# Altium footprint library ICs.PcbLib: 86 footprints (part 1 of 6)
Each footprint in its own frame and in the unit in brackets; x right, y up, seen from the top. Pads: shape width x height; smd on the part's side, far side on the other; paste and mask are expansions set on the pad; w line width, h text height; cw(c..) or ccw(c..) is an arc to the next point about the centre after c.
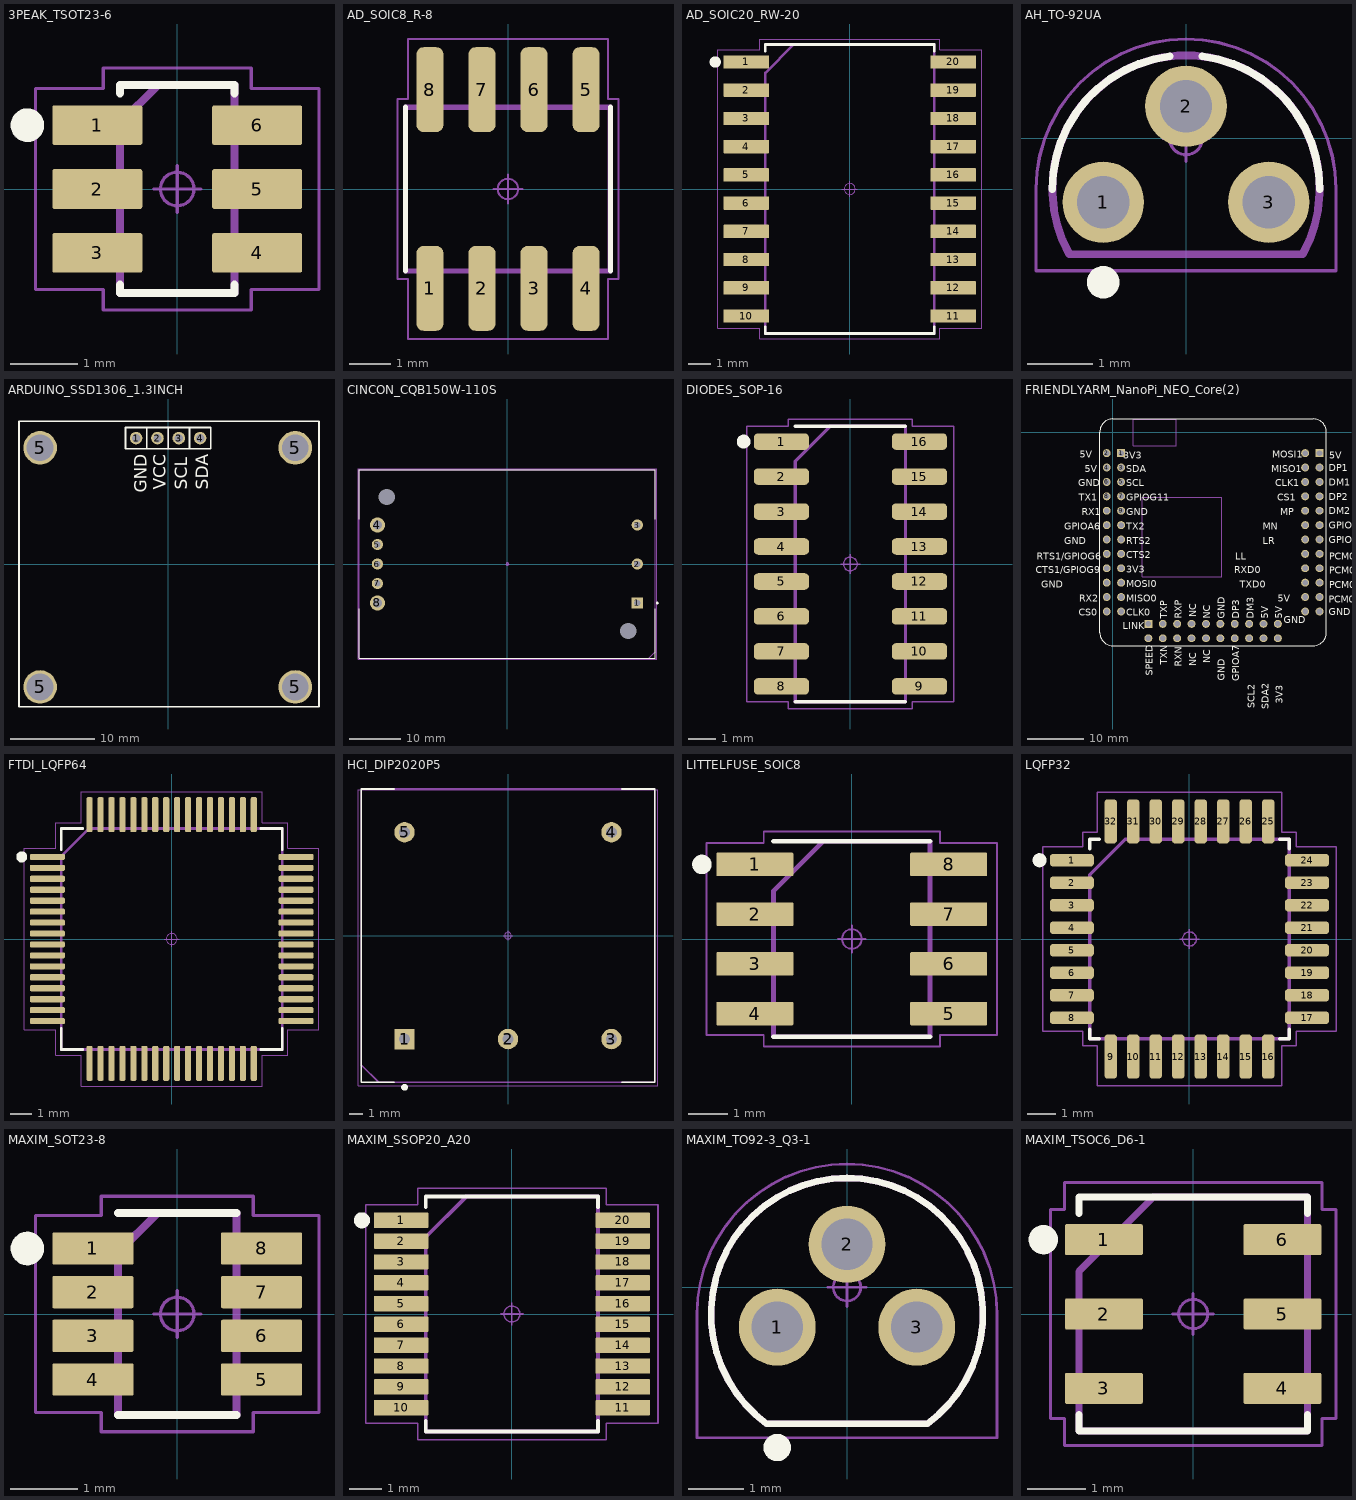
[diagram p0: the footprints below, top view; thin cyan lines are the x and y axes]

## 3PEAK_TSOT23-6 [mm] "Small Outline Transistor (SOT23), 0.95 mm pitch; 6 pin, 2.90 mm L X 1.60 mm W X 0.95 mm H body"
pads (6):
  rrect10% 1.34x0.59 smd: 1(-1.19,0.95) 2(-1.19,0) 3(-1.19,-0.95) 4(1.19,-0.95) 5(1.19,0) 6(1.19,0.95)
Top Overlay:
  circle w0.25: c-2.23,0.95 r0.125
  lines w0.12: -0.85,-1.425 -0.85,-1.55 0.85,-1.55 0.85,-1.425 ; -0.85,1.425 -0.85,1.55 0.85,1.55 0.85,1.425
Mechanical 11:
  lines w0.12: -0.85,-1.55 0.85,-1.55 0.85,1.55 -0.283,1.55 -0.85,0.983 -0.85,-1.55
  text ".Designator" at -2.252,-0.226 h1
Mechanical 15:
  circle w0.05: c0,0 r0.25
  lines w0.05: -0.35,0 0.35,0 ; 0,-0.35 0,0.35 ; -2.11,-1.495 -1.1,-1.495 -1.1,-1.8 1.1,-1.8 1.1,-1.495 2.11,-1.495 2.11,1.495 1.1,1.495 1.1,1.8 -1.1,1.8 -1.1,1.495 -2.11,1.495 -2.11,-1.495
3D body "3PEAK_TSOT23-6.STEP": height 0.95, standoff 0, extent -1.5,-1.55 1.5,1.55

## AD_SOIC8_R-8 [mm]
pads (8):
  rrect52% 0.66x2.07 smd: 1(-1.905,-2.425) 2(-0.635,-2.425) 3(0.635,-2.425) 4(1.905,-2.425) 5(1.905,2.425) 6(0.635,2.425) 7(-0.635,2.425) 8(-1.905,2.425)
Top Overlay:
  lines w0.12: -2.5,-2 -2.5,2 ; 2.5,-2 2.5,2
Mechanical 1:
  text ".Designator" at -2.577,-0.283 h1.2
Mechanical 11:
  lines w0.12: -2.5,-2 -2.5,2 2.5,2 2.5,-2 -2.5,-2
Mechanical 12:
  lines w0.025: -2.45,-1.95 -2.45,1.95 2.45,1.95 2.45,-1.95 -2.45,-1.95 ; -2.11,-3 -1.7,-3 -1.7,-2.165 -2.11,-2.165 -2.11,-3 ; -2.11,2.165 -1.7,2.165 -1.7,3 -2.11,3 -2.11,2.165 ; -0.84,-3 -0.43,-3 -0.43,-2.165 -0.84,-2.165 -0.84,-3 ; -0.84,2.165 -0.43,2.165 -0.43,3 -0.84,3 -0.84,2.165 ; 0.43,-3 0.84,-3 0.84,-2.165 0.43,-2.165 0.43,-3 ; 0.43,2.165 0.84,2.165 0.84,3 0.43,3 0.43,2.165 ; 1.7,-3 2.11,-3 2.11,-2.165 1.7,-2.165 1.7,-3 ; 1.7,2.165 2.11,2.165 2.11,3 1.7,3 1.7,2.165
Mechanical 15:
  circle w0.05: c0,0 r0.25
  lines w0.05: -0.35,0 0.35,0 ; 0,-0.35 0,0.35 ; -2.7,-2.2 -2.7,2.2 -2.435,2.2 -2.435,3.66 2.435,3.66 2.435,2.2 2.7,2.2 2.7,-2.2 2.435,-2.2 2.435,-3.66 -2.435,-3.66 -2.435,-2.2 -2.7,-2.2
3D body "SOIC8P127_490X600X175L83X41.STEP": height 1.75, standoff 0, extent -2.45,-3 2.45,3

## AD_SOIC20_RW-20 [mm] "Small Outline IC (SOIC), 1.27 mm pitch; 20 pin, 12.80 mm L X 7.50 mm W X 2.65 mm H body"
pads (20):
  rrect10% 2.05x0.6 smd: 1(-4.655,5.715) 2(-4.655,4.445) 3(-4.655,3.175) 4(-4.655,1.905) 5(-4.655,0.635) 6(-4.655,-0.635) 7(-4.655,-1.905) 8(-4.655,-3.175) 9(-4.655,-4.445) 10(-4.655,-5.715) 11(4.655,-5.715) 12(4.655,-4.445) 13(4.655,-3.175) 14(4.655,-1.905) 15(4.655,-0.635) 16(4.655,0.635) 17(4.655,1.905) 18(4.655,3.175) 19(4.655,4.445) 20(4.655,5.715)
Top Overlay:
  circle w0.25: c-6.05,5.715 r0.125
  lines w0.12: -3.8,-6.195 -3.8,-6.5 3.8,-6.5 3.8,-6.195 ; -3.8,6.195 -3.8,6.5 3.8,6.5 3.8,6.195
Mechanical 11:
  lines w0.12: -3.8,-6.5 -3.8,5.23 -2.53,6.5 3.8,6.5 3.8,-6.5 -3.8,-6.5
  text ".Designator" at -6.763,-0.679 h3
Mechanical 15:
  circle w0.05: c0,0 r0.25
  lines w0.05: -0.35,0 0.35,0 ; 0,-0.35 0,0.35 ; -5.93,-6.265 -5.93,6.265 -4.05,6.265 -4.05,6.75 4.05,6.75 4.05,6.265 5.93,6.265 5.93,-6.265 4.05,-6.265 4.05,-6.75 -4.05,-6.75 -4.05,-6.265 -5.93,-6.265
3D body "AD_SOIC20_RW-20.STEP": height 2.65, standoff 0, extent -5.325,-6.5 5.325,6.5

## AH_TO-92UA [mm] "TO-92, 1.27 mm pitch; 3 pin, 4.10 mm W X 4.25 mm H body"
pads (3):
  round 1.25 hole 0.8 paste-2539.97: 1(-1.27,-0.978) 2(0,0.495) 3(1.27,-0.978)
Top Overlay:
  circle w0.25: c-1.27,-2.205 r0.125
  lines w0.12: -2.05,-0.775 cw(c0,-0.775) -0.25,1.26 ; 0.25,1.26 cw(c0,-0.775) 2.05,-0.775
Mechanical 11:
  lines w0.12: -1.79,-1.775 cw(c0,-0.775) 1.79,-1.775 -1.79,-1.775
  text ".Designator" at -2.252,-0.226 h1
Mechanical 15:
  circle w0.05: c0,0 r0.25
  lines w0.05: -0.35,0 0.35,0 ; 0,-0.35 0,0.35 ; -2.3,-2.03 2.3,-2.03 2.3,-0.775 ccw(c0,-0.775) -2.3,-0.775 -2.3,-2.03
3D body "AH_TO-92UA.STEP": height 4.25, standoff -2, extent -2.05,-1.78 2.05,1.27

## ARDUINO_SSD1306_1.3INCH [mm] "1.3 inch OLED Display 128*64 pixels white - I2C"
pads (8):
  round 1.5 hole 1: 1(-3.81,15) 2(-1.27,15) 3(1.27,15) 4(3.81,15)
  round 4 hole 3.2: 5(-15.25,-14.65) 5(-15.25,13.85) 5(15.15,-14.65) 5(15.15,13.85)
Top Overlay:
  lines w0.2: -3.81,13.73 5.08,13.73 5.08,16.27 -5.08,16.27 -5.08,13.73 -2.54,13.73 -2.54,16.27 0,16.27 0,13.73 2.54,13.73 2.54,16.27 ; -17.77,-17 -17.77,17 17.98,17 17.98,-17 -17.77,-17
  text "GND" at -2.56,8.52 h1.5
  text "VCC" at -0.27,8.86 h1.5
  text "SCL" at 2.27,8.86 h1.5
  text "SDA" at 4.81,8.86 h1.5
3D body "Display_OLED_SSD1306_1.3inch.STEP": height 9.9, standoff -1.5, extent -17.85,-17 17.85,17
3D body: height 9.9, standoff 9.5, extent -13.5,-3.25 -8.5,5.75
3D body: height 9.9, standoff 9.5, extent -5.75,-3.25 -4.75,5.75
3D body: height 9.9, standoff 9.5, extent -1.75,-3.25 -0.75,5.75
3D body: height 9.9, standoff 9.5, extent 1.5,-3.25 6.5,0.75
3D body: height 9.9, standoff 9.5, extent 2.5,0.75 5.5,5.75
3D body: height 9.9, standoff 9.5, extent 7.7,-3.25 14.025,5.75

## CINCON_CQB150W-110S [mm] "CINCON_CQB150W-110S"
pads (10):
  round 0 hole 3.2 unplated: 0(-23.6,13.1) 0(23.6,-13.1)
  rect 2.2x2.2 hole 1.2 paste-2539.97: 1(25.4,-7.62)
  round 2.2 hole 1.2 paste-2539.97: 2(25.4,0) 3(25.4,7.62) 5(-25.4,3.81) 6(-25.4,0) 7(-25.4,-3.81)
  round 3 hole 1.8 paste-2539.97: 4(-25.4,7.62) 8(-25.4,-7.62)
Top Overlay:
  circle w0.25: c29.32,-7.62 r0.125
  lines w0.12: -28.95,-8.7 -28.95,-18.4 28.95,-18.4 28.95,-8.7 ; -28.95,8.7 -28.95,18.4 28.95,18.4 28.95,8.7
Mechanical 11:
  lines w0.12: -28.95,-18.4 -28.95,18.4 28.95,18.4 28.95,-17.13 27.68,-18.4 -28.95,-18.4
  text ".Designator" at -11.274,-1.132 h5
Mechanical 15:
  circle w0.05: c0,0 r0.25
  lines w0.05: -0.35,0 0.35,0 ; 0,-0.35 0,0.35 ; -29.2,-18.65 29.2,-18.65 29.2,18.65 -29.2,18.65 -29.2,-18.65
3D body "CQB100W-110SXX 2023.10.06.STEP": height 12.77, standoff -4.75, extent -28.95,-18.4 28.949,18.404

## DIODES_SOP-16 [mm]
pads (16):
  rrect50% 2x0.6 smd: 1(-2.505,4.445) 2(-2.505,3.175) 3(-2.505,1.905) 4(-2.505,0.635) 5(-2.505,-0.635) 6(-2.505,-1.905) 7(-2.505,-3.175) 8(-2.505,-4.445) 9(2.505,-4.445) 10(2.505,-3.175) 11(2.505,-1.905) 12(2.505,-0.635) 13(2.505,0.635) 14(2.505,1.905) 15(2.505,3.175) 16(2.505,4.445)
Top Overlay:
  circle w0.25: c-3.875,4.445 r0.125
  lines w0.12: -2,-5 2,-5 ; -2,5 2,5
Mechanical 11:
  lines w0.12: -2,-5 2,-5 2,5 -0.73,5 -2,3.73 -2,-5
  text ".Designator" at 0.5,-4.5 h2
Mechanical 15:
  circle w0.05: c0,0 r0.25
  lines w0.05: -0.35,0 0.35,0 ; 0,-0.35 0,0.35 ; -3.755,-4.995 -2.25,-4.995 -2.25,-5.25 2.25,-5.25 2.25,-4.995 3.755,-4.995 3.755,4.995 2.25,4.995 2.25,5.25 -2.25,5.25 -2.25,4.995 -3.755,4.995 -3.755,-4.995
3D body "SOIC16P127_990X605X175L83X42N.STEP": height 1.75, standoff 0, extent -3.15,-5 3.15,5

## FRIENDLYARM_NanoPi_NEO_Core(2) [mm]
pads (68):
  rect 1.4x1.4 hole 1: 1(1.47,-3.73) 25(6.284,-33.865) 45(36.5,-3.73)
  round 1.4 hole 1: 2(-1.07,-3.73) 3(1.47,-6.27) 4(-1.07,-6.27) 5(1.47,-8.81) 6(-1.07,-8.81) 7(1.47,-11.35) 8(-1.07,-11.35) 9(1.47,-13.89) 10(-1.07,-13.89) 11(1.47,-16.43) 12(-1.07,-16.43) 13(1.47,-18.97) 14(-1.07,-18.97) 15(1.47,-21.51) 16(-1.07,-21.51) 17(1.47,-24.05) 18(-1.07,-24.05) 19(1.47,-26.59) 20(-1.07,-26.59) 21(1.47,-29.13) 22(-1.07,-29.13) 23(1.47,-31.67) 24(-1.07,-31.67) 26(6.285,-36.405) 27(8.824,-33.865) 28(8.824,-36.405) 29(11.364,-33.865) 30(11.365,-36.405) 31(13.904,-33.865) 32(13.904,-36.405) 33(16.444,-33.865) 34(16.444,-36.405) 35(18.985,-33.865) 36(18.984,-36.405) 37(21.525,-33.865) 38(21.524,-36.405) 39(24.064,-33.865) 40(24.064,-36.405) 41(26.604,-33.865) 42(26.604,-36.405) 43(29.144,-33.865) 44(29.145,-36.405) 46(33.96,-3.73) 47(36.5,-6.27) 48(33.96,-6.27) 49(36.5,-8.81) 50(33.96,-8.81) 51(36.5,-11.35) 52(33.96,-11.35) 53(36.5,-13.89) 54(33.96,-13.89) 55(36.5,-16.43) 56(33.96,-16.43) 57(36.5,-18.97) 58(33.96,-18.97) 59(36.5,-21.51) 60(33.96,-21.51) 61(36.5,-24.05) 62(33.96,-24.05) 63(36.5,-26.59) 64(33.96,-26.59) 65(36.5,-29.13) 66(33.96,-29.13) 67(36.5,-31.67) 68(33.96,-31.67)
Top Overlay:
  lines w0.12: -2.3,-35.4 ccw(c0,-35.4) 0,-37.7 35.4,-37.7 ccw(c35.4,-35.4) 37.7,-35.4 37.7,0 ccw(c35.4,0) 35.4,2.3 0,2.3 ccw(c0,0) -2.3,0 -2.3,-35.4
  text "GND" at 38.141,-32.325 h1.2
  text "PCM0_DIN" at 38.154,-30.13 h1.2
  text "PCM0_DOUT" at 38.177,-27.59 h1.2
  text "PCM0_CLK" at 38.2,-25.05 h1.2
  text "PCM0_SYNC" at 38.2,-22.51 h1.2
  text "GPIOA17" at 38.141,-19.625 h1.2
  text "GPIOL11" at 38.141,-17.085 h1.2
  text "DM2" at 38.141,-14.545 h1.2
  text "DP2" at 38.141,-12.005 h1.2
  text "GND" at 30.198,-33.717 h1.2
  text "5V" at 29.102,-29.93 h1.2
  text "TXD0" at 22.43,-27.476 h1.2
  text "RXD0" at 21.477,-24.966 h1.2
  text "LL" at 21.641,-22.5 h1.2
  text "LR" at 26.452,-19.77 h1.2
  text "MN" at 26.487,-17.23 h1.2
  text "MP" at 29.577,-14.69 h1.2
  text "CS1" at 29.016,-12.15 h1.2
  text "5V" at 38.2,-4.68 h1.2
  text "MOSI1" at 28.117,-4.53 h1.2
  text "MISO1" at 28.013,-7.07 h1.2
  text "DP1" at 38.144,-6.925 h1.2
  text "CLK1" at 28.634,-9.61 h1.2
  text "DM1" at 38.111,-9.465 h1.2
  text "5V" at 29.944,-32.971 h1.2
  text "5V" at 27.404,-32.971 h1.2
  text "DM3" at 24.864,-32.971 h1.2
  text "DP3" at 22.324,-32.971 h1.2
  text "GND" at 19.784,-32.971 h1.2
  text "NC" at 17.244,-32.971 h1.2
  text "NC" at 14.704,-32.724 h1.2
  text "3V3" at 30.03,-47.935 h1.2
  text "SDA2" at 27.521,-48.889 h1.2
  text "SCL2" at 25.055,-48.724 h1.2
  text "GPIOA7" at 22.324,-43.97 h1.2
  text "GND" at 19.784,-43.878 h1.2
  text "NC" at 17.244,-40.789 h1.2
  text "NC" at 14.704,-41.349 h1.2
  text "LINK" at 1.788,-34.815 h1.2
  text "SPEED" at 7.084,-43.014 h1.2
  text "TXN" at 9.624,-41.107 h1.2
  text "TXP" at 9.624,-32.967 h1.2
  text "RXN" at 12.164,-41.428 h1.2
  text "RXP" at 12.164,-33.001 h1.2
  text "CLK0" at 2.365,-32.47 h1.2
  text "MISO0" at 2.365,-29.93 h1.2
  text "MOSI0" at 2.365,-27.39 h1.2
  text "3V3" at 2.365,-24.85 h1.2
  text "CTS2" at 2.365,-22.31 h1.2
  text "RTS2" at 2.365,-19.77 h1.2
  text "TX2" at 2.365,-17.23 h1.2
  text "GND" at 2.365,-14.69 h1.2
  text "GPIOG11" at 2.365,-12.15 h1.2
  text "CS0" at -5.995,-32.47 h1.2
  text "RX2" at -5.928,-29.93 h1.2
  text "GND" at -12.6,-27.476 h1.2
  text "CTS1/GPIOG9" at -13.553,-24.966 h1.2
  text "RTS1/GPIOG6" at -13.389,-22.5 h1.2
  text "GND" at -8.578,-19.77 h1.2
  text "GPIOA6" at -8.543,-17.23 h1.2
  text "RX1" at -5.453,-14.69 h1.2
  text "TX1" at -6.014,-12.15 h1.2
  text "3V3" at 1.861,-4.68 h1.2
  text "5V" at -5.793,-4.53 h1.2
  text "5V" at -4.943,-7.07 h1.2
  text "SDA" at 2.368,-7.07 h1.2
  text "GND" at -6.093,-9.61 h1.2
  text "SCL" at 2.334,-9.61 h1.2
Mechanical 13:
  lines w0.1: 3.59,2.276 3.59,-1.027 3.59,-2.424 10.575,-2.424 11.21,-2.424 11.21,0.879 11.21,2.276 ; 5.216,-25.526 5.216,-11.526 19.216,-11.526 19.216,-25.526 5.216,-25.526
  lines w0.12: 3.59,2.276 11.21,2.276
3D body "PLD-2x12.STEP": height 8.6, standoff -2.3, extent -2.339,-32.94 2.741,-2.46
3D body "PLD-2x10.STEP": height 8.6, standoff -2.3, extent 5.014,-37.675 30.414,-32.595
3D body "PLD-2x12.STEP": height 8.6, standoff -2.3, extent 32.691,-32.94 37.771,-2.46
3D body "kicad_module_3D_nanoPi_NEO_Core_кор..x_b": height 7.2, standoff 1.25, extent -2.3,-37.735 37.7,2.425

## FTDI_LQFP64 [mm] "Quad Flat Pack (QFP), 0.50 mm pitch; square, 16 pin X 16 pin, 10.00 mm L X 10.00 mm W X 1.60 mm H body"
pads (64):
  rrect50% 1.6x0.28 smd: 1(-5.68,3.75) 2(-5.68,3.25) 3(-5.68,2.75) 4(-5.68,2.25) 5(-5.68,1.75) 6(-5.68,1.25) 7(-5.68,0.75) 8(-5.68,0.25) 9(-5.68,-0.25) 10(-5.68,-0.75) 11(-5.68,-1.25) 12(-5.68,-1.75) 13(-5.68,-2.25) 14(-5.68,-2.75) 15(-5.68,-3.25) 16(-5.68,-3.75) 33(5.68,-3.75) 34(5.68,-3.25) 35(5.68,-2.75) 36(5.68,-2.25) 37(5.68,-1.75) 38(5.68,-1.25) 39(5.68,-0.75) 40(5.68,-0.25) 41(5.68,0.25) 42(5.68,0.75) 43(5.68,1.25) 44(5.68,1.75) 45(5.68,2.25) 46(5.68,2.75) 47(5.68,3.25) 48(5.68,3.75)
  rrect50% 0.28x1.6 smd: 17(-3.75,-5.68) 18(-3.25,-5.68) 19(-2.75,-5.68) 20(-2.25,-5.68) 21(-1.75,-5.68) 22(-1.25,-5.68) 23(-0.75,-5.68) 24(-0.25,-5.68) 25(0.25,-5.68) 26(0.75,-5.68) 27(1.25,-5.68) 28(1.75,-5.68) 29(2.25,-5.68) 30(2.75,-5.68) 31(3.25,-5.68) 32(3.75,-5.68) 49(3.75,5.68) 50(3.25,5.68) 51(2.75,5.68) 52(2.25,5.68) 53(1.75,5.68) 54(1.25,5.68) 55(0.75,5.68) 56(0.25,5.68) 57(-0.25,5.68) 58(-0.75,5.68) 59(-1.25,5.68) 60(-1.75,5.68) 61(-2.25,5.68) 62(-2.75,5.68) 63(-3.25,5.68) 64(-3.75,5.68)
Top Overlay:
  circle w0.25: c-6.85,3.75 r0.125
  lines w0.12: -5.05,-4.07 -5.05,-5.05 -4.07,-5.05 ; -5.05,4.07 -5.05,5.05 -4.07,5.05 ; 4.07,-5.05 5.05,-5.05 5.05,-4.07 ; 4.07,5.05 5.05,5.05 5.05,4.07
Mechanical 11:
  lines w0.12: -5.05,-5.05 5.05,-5.05 5.05,5.05 -3.78,5.05 -5.05,3.78 -5.05,-5.05
  text ".Designator" at -4.511,-0.453 h2
Mechanical 15:
  circle w0.05: c0,0 r0.25
  lines w0.05: -0.35,0 0.35,0 ; 0,-0.35 0,0.35 ; -6.73,-4.14 -5.3,-4.14 -5.3,-5.3 -4.14,-5.3 -4.14,-6.73 4.14,-6.73 4.14,-5.3 5.3,-5.3 5.3,-4.14 6.73,-4.14 6.73,4.14 5.3,4.14 5.3,5.3 4.14,5.3 4.14,6.73 -4.14,6.73 -4.14,5.3 -5.3,5.3 -5.3,4.14 -6.73,4.14 -6.73,-4.14
3D body "FTDI_LQFP64.STEP": height 1.6, standoff 0, extent -6.125,-6.125 6.125,6.125

## HCI_DIP2020P5 [mm] "DIP, 15.24 mm lead span, 7.62 mm pitch; 6 pin, 21.60 mm L X 21.60 mm W X 11.00 mm H body"
pads (5):
  rect 1.5x1.5 hole 0.8 paste-2539.97: 1(-7.62,-7.62)
  round 1.5 hole 0.8 paste-2539.97: 2(0,-7.62) 3(7.62,-7.62) 4(7.62,7.62) 5(-7.62,7.62)
Top Overlay:
  circle w0.25: c-7.62,-11.17 r0.125
  lines w0.12: -8.4,-10.8 -10.8,-10.8 -10.8,10.8 -8.4,10.8 ; 8.4,-10.8 10.8,-10.8 10.8,10.8 8.4,10.8
Mechanical 11:
  lines w0.12: -10.8,-9.53 -9.53,-10.8 10.8,-10.8 10.8,10.8 -10.8,10.8 -10.8,-9.53
  text ".Designator" at -6.763,-0.679 h3
Mechanical 15:
  circle w0.05: c0,0 r0.25
  lines w0.05: -0.35,0 0.35,0 ; 0,-0.35 0,0.35 ; -11.05,-11.05 -11.05,10.75 11.05,10.75 11.05,-11.05 -11.05,-11.05
3D body "HCI_DIP2020P5.STEP": height 11, standoff 0.38, extent -10.8,-10.8 10.8,10.8

## LITTELFUSE_SOIC8 [mm] "Small Outline IC (SOIC), 1.27 mm pitch; 8 pin, 4.90 mm L X 3.90 mm W X 1.75 mm H body"
pads (8):
  rrect10% 1.97x0.6 smd: 1(-2.475,1.905) 2(-2.475,0.635) 3(-2.475,-0.635) 4(-2.475,-1.905) 5(2.475,-1.905) 6(2.475,-0.635) 7(2.475,0.635) 8(2.475,1.905)
Top Overlay:
  circle w0.25: c-3.83,1.905 r0.125
  lines w0.12: -2,-2.5 2,-2.5 ; -2,2.5 2,2.5
Mechanical 11:
  lines w0.12: -2,-2.5 2,-2.5 2,2.5 -0.73,2.5 -2,1.23 -2,-2.5
  text ".Designator" at -2.252,-0.226 h1
Mechanical 15:
  circle w0.05: c0,0 r0.25
  lines w0.05: -0.35,0 0.35,0 ; 0,-0.35 0,0.35 ; -3.71,-2.455 -2.25,-2.455 -2.25,-2.75 2.25,-2.75 2.25,-2.455 3.71,-2.455 3.71,2.455 2.25,2.455 2.25,2.75 -2.25,2.75 -2.25,2.455 -3.71,2.455 -3.71,-2.455
3D body "LITTELFUSE_SOIC8.STEP": height 1.75, standoff 0, extent -3.1,-2.5 3.1,2.5

## LQFP32 [mm]
pads (32):
  rrect49% 1.56x0.45 smd: 1(-4.18,2.8) 2(-4.18,2) 3(-4.18,1.2) 4(-4.18,0.4) 5(-4.18,-0.4) 6(-4.18,-1.2) 7(-4.18,-2) 8(-4.18,-2.8) 17(4.18,-2.8) 18(4.18,-2) 19(4.18,-1.2) 20(4.18,-0.4) 21(4.18,0.4) 22(4.18,1.2) 23(4.18,2) 24(4.18,2.8)
  rrect49% 0.45x1.56 smd: 9(-2.8,-4.18) 10(-2,-4.18) 11(-1.2,-4.18) 12(-0.4,-4.18) 13(0.4,-4.18) 14(1.2,-4.18) 15(2,-4.18) 16(2.8,-4.18) 25(2.8,4.18) 26(2,4.18) 27(1.2,4.18) 28(0.4,4.18) 29(-0.4,4.18) 30(-1.2,4.18) 31(-2,4.18) 32(-2.8,4.18)
Top Overlay:
  circle w0.25: c-5.33,2.8 r0.125
  lines w0.12: -3.55,-3.21 -3.55,-3.55 -3.21,-3.55 ; -3.55,3.21 -3.55,3.55 -3.21,3.55 ; 3.21,-3.55 3.55,-3.55 3.55,-3.21 ; 3.21,3.55 3.55,3.55 3.55,3.21
Mechanical 1:
  text ".Designator" at -2.252,0.188 h1
Mechanical 11:
  lines w0.12: -3.55,-3.55 3.55,-3.55 3.55,3.55 -2.28,3.55 -3.55,2.28 -3.55,-3.55
Mechanical 15:
  circle w0.05: c0,0 r0.25
  lines w0.05: -0.35,0 0.35,0 ; 0,-0.35 0,0.35 ; -5.21,-3.275 -3.8,-3.275 -3.8,-3.8 -3.275,-3.8 -3.275,-5.21 3.275,-5.21 3.275,-3.8 3.8,-3.8 3.8,-3.275 5.21,-3.275 5.21,3.275 3.8,3.275 3.8,3.8 3.275,3.8 3.275,5.21 -3.275,5.21 -3.275,3.8 -3.8,3.8 -3.8,3.275 -5.21,3.275 -5.21,-3.275
3D body "QFP32P80_900X900X160L60X27.STEP": height 1.6, standoff 0, extent -4.5,-4.5 4.5,4.5

## MAXIM_SOT23-8 [mm] "Small Outline Transistor (SOT23), 0.65 mm pitch; 8 pin, 2.90 mm L X 1.625 mm W X 1.45 mm H body"
pads (8):
  rrect10% 1.21x0.48 smd: 1(-1.255,0.975) 2(-1.255,0.325) 3(-1.255,-0.325) 4(-1.255,-0.975) 5(1.255,-0.975) 6(1.255,-0.325) 7(1.255,0.325) 8(1.255,0.975)
Top Overlay:
  circle w0.25: c-2.23,0.975 r0.125
  lines w0.12: -0.88,-1.5 0.88,-1.5 ; -0.88,1.5 0.88,1.5
Mechanical 11:
  lines w0.12: -0.88,-1.5 0.88,-1.5 0.88,1.5 -0.293,1.5 -0.88,0.913 -0.88,-1.5
  text ".Designator" at 0.226,-2.252 h1
Mechanical 15:
  circle w0.05: c0,0 r0.25
  lines w0.05: -0.35,0 0.35,0 ; 0,-0.35 0,0.35 ; -2.11,-1.465 -1.13,-1.465 -1.13,-1.75 1.13,-1.75 1.13,-1.465 2.11,-1.465 2.11,1.465 1.13,1.465 1.13,1.75 -1.13,1.75 -1.13,1.465 -2.11,1.465 -2.11,-1.465
3D body "MAXIM_SOT23-8.STEP": height 1.45, standoff 0, extent -1.5,-1.5 1.5,1.5

## MAXIM_SSOP20_A20 [mm] "Small Outline Pkg (SOP), 0.65 mm pitch; 20 pin, 7.20 mm L X 5.29 mm W X 1.99 mm H body"
pads (20):
  rrect10% 1.7x0.48 smd: 1(-3.46,2.925) 2(-3.46,2.275) 3(-3.46,1.625) 4(-3.46,0.975) 5(-3.46,0.325) 6(-3.46,-0.325) 7(-3.46,-0.975) 8(-3.46,-1.625) 9(-3.46,-2.275) 10(-3.46,-2.925) 11(3.46,-2.925) 12(3.46,-2.275) 13(3.46,-1.625) 14(3.46,-0.975) 15(3.46,-0.325) 16(3.46,0.325) 17(3.46,0.975) 18(3.46,1.625) 19(3.46,2.275) 20(3.46,2.925)
Top Overlay:
  circle w0.25: c-4.68,2.925 r0.125
  lines w0.12: -2.69,-3.345 -2.69,-3.67 2.69,-3.67 2.69,-3.345 ; -2.69,3.345 -2.69,3.67 2.69,3.67 2.69,3.345
Mechanical 11:
  lines w0.12: -2.69,-3.67 -2.69,2.4 -1.42,3.67 2.69,3.67 2.69,-3.67 -2.69,-3.67
  text ".Designator" at -2.252,-0.226 h1
Mechanical 15:
  circle w0.05: c0,0 r0.25
  lines w0.05: -0.35,0 0.35,0 ; 0,-0.35 0,0.35 ; -4.56,-3.415 -4.56,3.415 -2.94,3.415 -2.94,3.92 2.94,3.92 2.94,3.415 4.56,3.415 4.56,-3.415 2.94,-3.415 2.94,-3.92 -2.94,-3.92 -2.94,-3.415 -4.56,-3.415
3D body "MAXIM_SSOP20_A20.STEP": height 1.99, standoff 0, extent -3.95,-3.665 3.95,3.665

## MAXIM_TO92-3_Q3-1 [mm] "TO-92, 1.27 mm pitch; 3 pin, 4.95 mm W X 17.44 mm H body"
pads (3):
  round 1.4 hole 0.93 paste-2539.97: 1(-1.27,-0.727) 2(0,0.783) 3(1.27,-0.727)
Top Overlay:
  circle w0.25: c-1.27,-2.917 r0.125
  lines w0.12: -1.458,-2.487 cw(c0,-0.487) 1.458,-2.487 -1.458,-2.488
Mechanical 11:
  lines w0.12: -1.458,-2.487 cw(c0,-0.487) 1.458,-2.487 -1.458,-2.488
  text ".Designator" at -4.511,-0.453 h2
Mechanical 15:
  circle w0.05: c0,0 r0.25
  lines w0.05: -0.35,0 0.35,0 ; 0,-0.35 0,0.35 ; -2.73,-2.74 2.73,-2.74 2.73,-0.487 ccw(c0,-0.487) -2.73,-0.487 -2.73,-2.74
3D body "MAXIM_TO92-3_Q3-1.STEP": height 17.44, standoff -2, extent -2.475,-2.49 2.475,1.985

## MAXIM_TSOC6_D6-1 [mm] "TSOC, L-Bend, 1.27 mm pitch; 6 pin, 3.93 mm L X 3.76 mm W X 1.50 mm H body"
pads (6):
  rrect10% 1.33x0.53 smd: 1(-1.525,1.27) 2(-1.525,0) 3(-1.525,-1.27) 4(1.525,-1.27) 5(1.525,0) 6(1.525,1.27)
Top Overlay:
  circle w0.25: c-2.56,1.27 r0.125
  lines w0.12: -1.95,-1.715 -1.95,-2 1.95,-2 1.95,-1.715 ; -1.95,1.715 -1.95,2 1.95,2 1.95,1.715
Mechanical 11:
  lines w0.12: -1.95,-2 -1.95,0.73 -0.68,2 1.95,2 1.95,-2 -1.95,-2
  text ".Designator" at -2.252,-0.226 h1
Mechanical 15:
  circle w0.05: c0,0 r0.25
  lines w0.05: -0.35,0 0.35,0 ; 0,-0.35 0,0.35 ; -2.44,-1.785 -2.44,1.785 -2.2,1.785 -2.2,2.25 2.2,2.25 2.2,1.785 2.44,1.785 2.44,-1.785 2.2,-1.785 2.2,-2.25 -2.2,-2.25 -2.2,-1.785 -2.44,-1.785
3D body "MAXIM_TSOC6_D6-1.STEP": height 1.5, standoff 0, extent -2.225,-2 2.225,2